# EAGLE library part DHV_CELLS (library DHV_solar_cell)
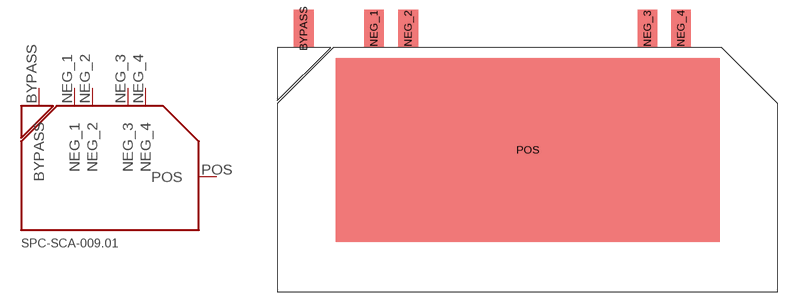
[diagram p0: symbol with the pads of SOLAR_CELL; footprint SOLAR_CELL]

Designator prefix -

## DHV_CELLS  [SOLAR_CELL]
BYPASS  BYPASS
NEG_1  NEG_1
NEG_2  NEG_2
NEG_3  NEG_3
NEG_4  NEG_4
POS  POS

## Footprint SOLAR_CELL (pad centres in mm)
smd 3 x 5.7: BYPASS -34.1,18.51; NEG_1 -23.4,18.51; NEG_2 -18.2,18.51; NEG_3 18.2,18.51; NEG_4 23.3,18.51
smd 58.42 x 27.94: POS 0,0